# Altium schematic symbol library SQJ148EP-T1_GE3.SchLib: 1 symbol
Pins are listed as number, name and electrical type; pins without a type are passive.

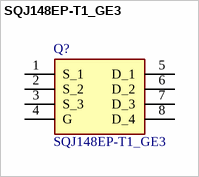
[diagram p0: symbol SQJ148EP-T1_GE3]

## SQJ148EP-T1_GE3
designator Q?
MOSFET N Ch 40Vds 20Vgs AEC-Q101 Qualified; Manufacturer_Name: Vishay; Geometry.Height: 1.267mm; Manufacturer_Part_Number: SQJ148EP-T1_GE3; Mouser Part Number: 78-SQJ148EP-T1_GE3; Mouser Price/Stock: https://www.mouser.co.uk/ProductDetail/Vishay-Siliconix/SQJ148EP-T1_GE3?qs=G1ssh2j%252Bqz5yrigayqaTsg%3D%3D; Arrow Part Number: SQJ148EP-T1_GE3; Arrow Price/Stock: https://www.arrow.com/en/products/sqj148ep-t1-ge3/vishay?utm_currency=USD&region=nac; Datasheet Link: http://www.vishay.com/docs/75162/sqj148ep.pdf
footprint SQJ148EPT1_GE3
pins: 1 S_1, 2 S_2, 3 S_3, 4 G, 5 D_1, 6 D_2, 7 D_3, 8 D_4